# Altium footprint library integrated pcb library phase2.PcbLib: 29 footprints (part 2 of 2)
Each footprint in its own frame and in the unit in brackets; x right, y up, seen from the top. Pads: shape width x height; smd on the part's side, far side on the other; paste and mask are expansions set on the pad; w line width, h text height; cw(c..) or ccw(c..) is an arc to the next point about the centre after c.
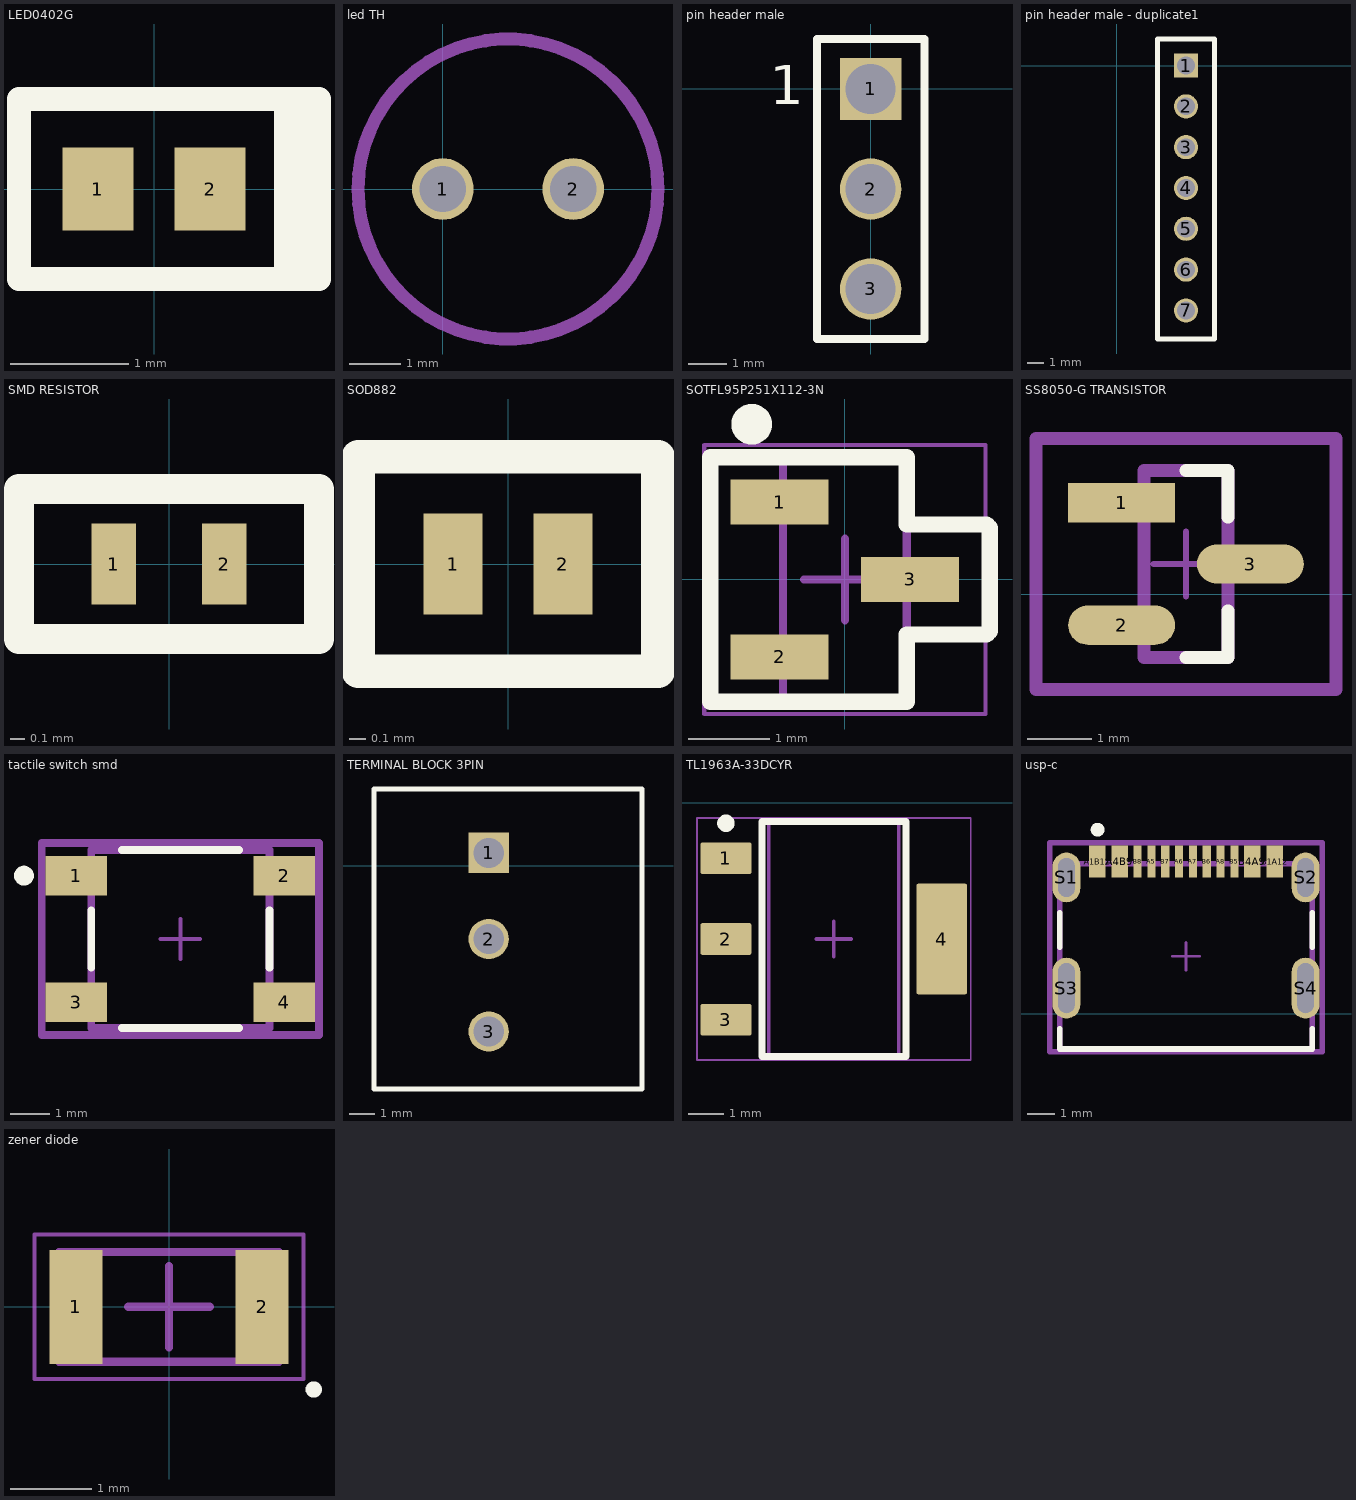
[diagram p1: the footprints below, top view; thin cyan lines are the x and y axes]

## LED0402G [mm]
pads (2):
  rect 0.6x0.7 smd: 1(-0.475,0) 2(0.475,0)
Top Overlay:
  rectangle: 1.016,-0.762 1.397,0.762
  lines w0.2: -1.143,-0.762 -1.143,0.762 1.397,0.762 1.397,-0.762 -1.143,-0.762
3D body "VLMx15xx_0402[1].stp": height 0.36, standoff 0.01, extent -0.5,-0.254 0.5,0.246

## led TH [mm]
pads (2):
  round 1.2 hole 0.9: 1(0,0) 2(2.54,0)
Mechanical 1:
  circle w0.254: c1.27,0 r2.921
3D body "XLxx12.step": height 8.62, standoff -26.99, extent -1.624,-2.921 3.81,2.991

## pin header male [mm]
pads (3):
  rect 1.6x1.6 hole 1.3: 1(0,0)
  round 1.6 hole 1.3: 2(0,-2.6) 3(0,-5.2)
Top Overlay:
  lines w0.2: -1.397,-6.5 -1.397,1.3 1.397,1.3 1.397,-6.5 -1.397,-6.5
  text "1" at -2.63,-0.4 h1.02
3D body "61300311121_Download_STP_61300311121_rev1.stp": height 8.06, standoff -3.48, extent -1.27,-6.41 1.27,1.21

## pin header male - duplicate1 [mm]
pads (7):
  rect 1.5x1.5 hole 1.1: 1(4.318,0)
  round 1.5 hole 1.1: 2(4.318,-2.54) 3(4.318,-5.08) 4(4.318,-7.62) 5(4.318,-10.16) 6(4.318,-12.7) 7(4.318,-15.24)
Top Overlay:
  lines w0.3: 2.54,-17.018 2.54,1.651 6.096,1.651 6.096,-17.018 2.54,-17.018
Mechanical 13:
  text "'.Designator'String" at -0.406,-16.183 h1
3D body "3-644456-7[1].step": height 10.03, standoff -2.79, extent 3.15,-16.36 5.486,1.12

## SMD RESISTOR [mm]
pads (2):
  rect 0.3x0.55 smd: 1(-0.375,0) 2(0.375,0)
Top Overlay:
  lines w0.2: -1.016,-0.508 -1.016,0.508 1.016,0.508 1.016,-0.508 -1.016,-0.508
Mechanical 13:
  text "'.Designator'" at -4.064,0.635 h0.7
3D body "AC0402FR-0710KL[1].step": height 0.37, standoff 0, extent -0.5,-0.246 0.5,0.254

## SOD882 [mm]
pads (2):
  rect 0.35x0.6 smd: 1(-0.325,0) 2(0.325,0)
Top Overlay:
  lines w0.2: -0.889,-0.635 0.889,-0.635 0.889,0.635 -0.889,0.635 -0.889,-0.635
3D body "CST2-ZKN_r[1].stp": height 0.38, standoff 0, extent -0.5,-0.3 0.5,0.3

## SOTFL95P251X112-3N [mm] "SOTFL, 3-Leads, Body 2.92x2.51mm, Pitch 0.95mm, IPC Medium Density"
height 1.12
pads (3):
  rect 1.2x0.55 smd: 1(-0.8,0.95) 2(-0.8,-0.95) 3(0.8,0)
Top Overlay:
  circle w0.25: c-1.143,1.905 r0.125
  lines w0.2: -1.651,-1.5 -1.651,1.5 0.76,1.5 0.76,0.675 1.738,0.675 1.778,0.635 1.778,-0.635 1.738,-0.675 0.76,-0.675 0.76,-1.5 -1.651,-1.5
Mechanical 13:
  lines w0.1: -0.76,-1.52 0.76,-1.52 0.76,1.52 -0.76,1.52 -0.76,-1.52
  text "'.Designator'String" at -3.329,2.392 h0.4
Mechanical 15:
  lines w0.05: -1.725,-1.65 1.725,-1.65 1.725,1.65 -1.725,1.65 -1.725,-1.65
  lines w0.1: -0.5,0 0.5,0 ; 0,-0.5 0,0.5
3D body "FDN304P[1].step": height 1.12, standoff 0, extent -1.255,-1.46 1.255,1.46

## SS8050-G TRANSISTOR [mm]
pads (3):
  rect 1.657x0.612 smd paste+0 mask+0: 1(4.16,1.423)
  rrect100% 1.657x0.612 smd paste+0 mask+0: 2(4.16,-0.477) 3(6.162,0.473)
Top Overlay:
  lines w0.2: 5.161,-0.977 5.811,-0.977 5.811,-0.252 ; 5.161,1.923 5.811,1.923 5.811,1.198
Top 3D Body:
  lines w0.2: 4.511,-0.977 5.811,-0.977 5.811,1.923 4.511,1.923 4.511,-0.977
Top Courtyard:
  lines w0.2: 2.832,-1.477 7.49,-1.477 7.49,2.423 2.832,2.423 2.832,-1.477
Top Assembly:
  lines w0.2: 2.832,-1.477 7.49,-1.477 7.49,2.423 2.832,2.423 2.832,-1.477
  text ".Designator" at 5.161,0.472 h1
Top Component Center:
  lines w0.1: 4.661,0.473 5.661,0.473 ; 5.161,-0.027 5.161,0.973
3D body "Trans_Comchip_SS8050-G_eec.STEP": height 0.25, standoff 0, extent 2.832,-1.477 7.49,2.423

## tactile switch smd [mm]
pads (4):
  rect 1.55x1 smd paste+0 mask+0: 1(-231.347,202.214) 2(-226.097,202.214) 3(-231.347,199.014) 4(-226.097,199.014)
Top Overlay:
  circle w0.25: c-232.672,202.214 r0.125
  lines w0.2: -230.972,199.889 -230.972,201.339 ; -230.197,198.364 -227.247,198.364 ; -230.197,202.864 -227.247,202.864 ; -226.472,199.889 -226.472,201.339
Top 3D Body:
  lines w0.2: -230.972,198.364 -226.472,198.364 -226.472,202.864 -230.972,202.864 -230.972,198.364
Top Courtyard:
  lines w0.2: -232.222,198.189 -225.222,198.189 -225.222,203.039 -232.222,203.039 -232.222,198.189
Top Assembly:
  lines w0.2: -232.222,198.189 -225.222,198.189 -225.222,203.039 -232.222,203.039 -232.222,198.189
  text ".Designator" at -228.722,200.802 h1
Top Component Center:
  lines w0.1: -229.222,200.614 -228.222,200.614 ; -228.722,200.114 -228.722,201.114
3D body "Switch_C&K_Components_PTS647SM38SMTR2LFS_eec.STEP": height 0.25, standoff 0, extent -232.222,198.189 -225.222,203.039

## TERMINAL BLOCK 3PIN [mm]
pads (3):
  rect 1.6x1.6 hole 1.2: 1(7.874,0.508)
  round 1.6 hole 1.2: 2(7.874,-2.921) 3(7.874,-6.604)
Top Overlay:
  lines w0.2: 3.302,-8.89 13.984,-8.89 13.984,3.048 3.302,3.048 3.302,1.414 3.302,-2.323 3.302,-8.89
3D body "1751109[1].step": height 9.53, standoff -3.5, extent 3.494,-8.509 13.524,2.521

## TL1963A-33DCYR [mm]
pads (4):
  rrect11% 1.45x0.9 smd: 1(82.213,-1.581) 2(82.213,-3.881) 3(82.213,-6.181)
  rrect7% 1.45x3.15 smd: 4(88.363,-3.881)
Top Overlay:
  circle w0.25: c82.213,-0.581 r0.125
  lines w0.2: 83.238,-7.231 83.238,-0.531 87.338,-0.531 87.338,-7.231 83.238,-7.231
Mechanical 1:
  text ".Designator" at 83.637,-4.262 h0.8
Mechanical 13:
  lines w0.1: 83.438,-7.231 83.438,-0.531 87.138,-0.531 87.138,-7.231 83.438,-7.231
Mechanical 15:
  lines w0.05: 81.388,-7.331 81.388,-0.431 89.188,-0.431 89.188,-7.331 81.388,-7.331
  lines w0.1: 84.788,-3.881 85.788,-3.881 ; 85.288,-4.381 85.288,-3.381
3D body "SOT-223.stp": height 1.62, standoff -0.03, extent 81.788,-7.131 88.788,-0.631

## usp-c [mm]
pads (16):
  rect 0.6x1.15 smd paste+0 mask+0: A1B12(3.746,5.505) A4B9(4.546,5.505) B1A12(10.146,5.505) B4A9(9.346,5.505)
  rect 0.3x1.15 smd paste+0 mask+0: A5(5.696,5.505) A6(6.696,5.505) A7(7.196,5.505) A8(8.196,5.505) B5(8.696,5.505) B6(7.696,5.505) B7(6.196,5.505) B8(5.196,5.505)
  rrect100% 1x1.8 hole 1.4 slot 0.6 at 0 deg paste-2539.97 mask+0: S1(2.626,4.93) S2(11.266,4.93)
  rrect100% 1x2.2 hole 1.8 slot 0.6 at 0 deg paste-2539.97 mask+0: S3(2.626,0.93) S4(11.266,0.93)
Top Overlay:
  circle w0.25: c3.751,6.655 r0.125
  lines w0.2: 2.376,-0.545 2.376,-1.27 11.516,-1.27 11.516,-0.545 ; 2.376,2.405 2.376,3.655 ; 11.516,2.405 11.516,3.655
Top 3D Body:
  lines w0.2: 2.376,-1.27 2.376,5.43 11.516,5.43 11.516,-1.27 2.376,-1.27
Board:
  lines w0.2: 2.026,-1.37 2.026,6.18 11.866,6.18 11.866,-1.37 2.026,-1.37
Top Assembly:
  lines w0.2: 2.026,-1.37 2.026,6.18 11.866,6.18 11.866,-1.37 2.026,-1.37
  text ".Designator" at 6.946,2.593 h1
Top Component Center:
  lines w0.1: 6.446,2.08 7.446,2.08 ; 6.946,1.58 6.946,2.58
3D body "Conn_Molex_2171790001_eec.STEP": height 0.25, standoff 0, extent 2.026,-1.37 11.866,6.18

## zener diode [mm]
height 1
pads (2):
  rect 0.65x1.4 smd: 1(-1.143,0) 2(1.143,0)
Top Overlay:
  circle w0.1: c1.778,-1.016 r0.05
Mechanical 13:
  lines w0.1: -1.35,-0.675 1.35,-0.675 1.35,0.675 -1.35,0.675 -1.35,-0.675
  text "'.Designator'String" at -3.075,1.249 h0.4
Mechanical 15:
  lines w0.05: -1.651,-0.889 1.651,-0.889 1.651,0.889 -1.651,0.889 -1.651,-0.889
  lines w0.1: -0.5,0 0.5,0 ; 0,-0.5 0,0.5
3D body "SZMM3Z16VT1G[1].step": height 1, standoff 0, extent -1.25,-0.619 1.25,0.619